# Altium schematic symbol library nira_avr_dev_board.SCHLIB: 67 symbols
Pins are listed as number, name and electrical type; pins without a type are passive.

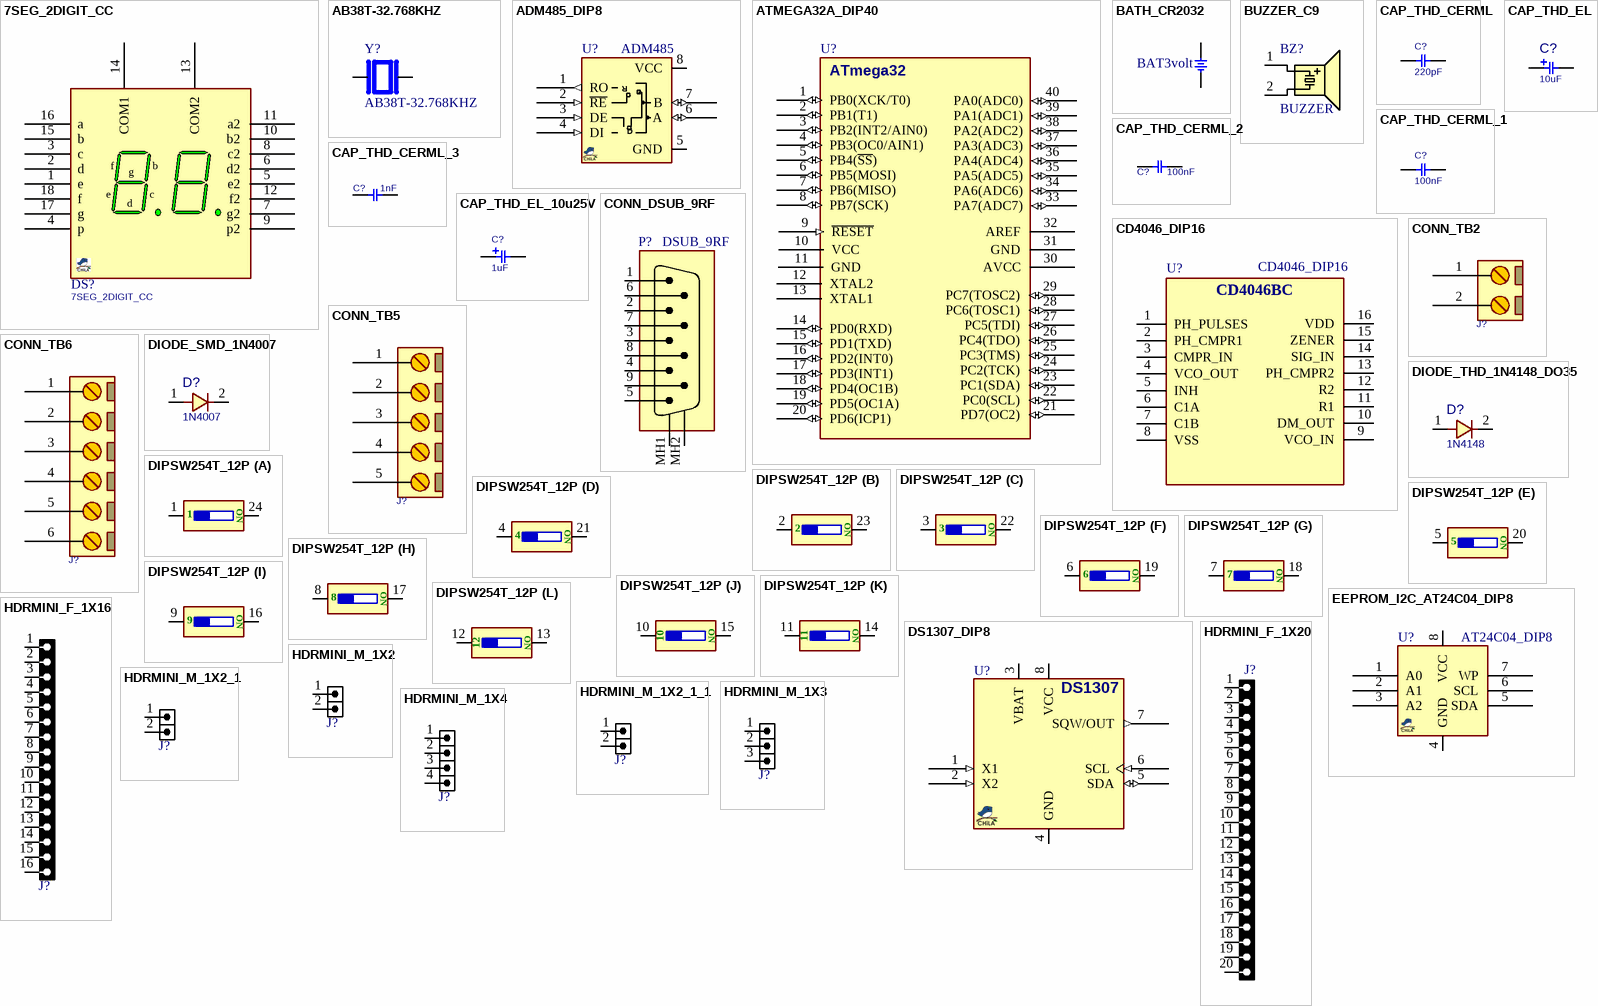
[diagram p0: symbols 7SEG_2DIGIT_CC to HDRMINI_M_1X4]

## 7SEG_2DIGIT_CC
designator DS?
7SEGMENT, 2DIGIT, common cathode; VALUE: 7SEG_2DIGIT_CC
footprint 7SEGX2_16 (7SEG 2DIGIT 16pin Pitch: 2.54mm    5621 0.56", 19X25mm)
pins: 1 e, 2 d, 3 c, 4 p, 5 e2, 6 d2, 7 g2, 8 c2, 9 p2, 10 b2, 11 a2, 12 f2, 13 COM2, 14 COM1, 15 b, 16 a, 17 g, 18 f

## AB38T-32.768KHZ
designator Y?
MP: AB38T-32.768KHZ; Price: None; Package: None; Availability: Unavailable; Value: *
footprint XTAL_AB38T-32.768KHZ
pins: 1, 2

## ADM485_DIP8
designator U?, comment ADM485
RS-485 Transceiver, 5V, DIP-8, ±7V Ground Difference Between Devices on the Bus; MANF_P#: ADM485AN; MANF: Analog Devices; PRICE: 4000toman@PAYA; VALUE: ADM485
footprint DIP_8 (DIP, pitch 2.54mm, 300mil Width)
pins: 1 RO (out), 2 ~{RE} (in), 3 DE (in), 4 DI (in), 5 GND, 6 A (io), 7 B (io), 8 VCC
text: R; D

## ATMEGA32A_DIP40
designator U?, comment ATMEGA32  (value not drawn)
MCU, AVR, 8-Bit, 32KB, 2KB RAM, 16MHz; MANF_P#: ATMEGA32A-PU; DESC: 1KB EEPROM; MANF: ATMEL/MICROCHIP; PARAM2: 2.7~5.5V; PARAM: 32KB, 2KB RAM, 16MHz, -40~85°C; PRICE: 3.5$; VALUE: ATMEGA32
footprint DIP_40DW (DIP, pitch 2.54mm, 600mil Width)
pins: 1 PB0(XCK/T0) (io), 2 PB1(T1) (io), 3 PB2(INT2/AIN0) (io), 4 PB3(OC0/AIN1) (io), 5 PB4(~{SS}) (io), 6 PB5(MOSI) (io), 7 PB6(MISO) (io), 8 PB7(SCK) (io), 9 ~{RESET} (in), 10 VCC (power), 11 GND (power), 12 XTAL2, 13 XTAL1, 14 PD0(RXD) (io), 15 PD1(TXD) (io), 16 PD2(INT0) (io), 17 PD3(INT1) (io), 18 PD4(OC1B) (io), 19 PD5(OC1A) (io), 20 PD6(ICP1) (io), 21 PD7(OC2) (io), 22 PC0(SCL) (io), 23 PC1(SDA) (io), 24 PC2(TCK) (io), 25 PC3(TMS) (io), 26 PC4(TDO) (io), 27 PC5(TDI) (io), 28 PC6(TOSC1) (io), 29 PC7(TOSC2) (io), 30 AVCC (power), 31 GND (power), 32 AREF (power), 33 PA7(ADC7) (io), 34 PA6(ADC6) (io), 35 PA5(ADC5) (io), 36 PA4(ADC4) (io), 37 PA3(ADC3) (io), 38 PA2(ADC2) (io), 39 PA1(ADC1) (io), 40 PA0(ADC0) (io)
text: ATmega32

## BATH_CR2032
designator BT?, comment BAT3volt
BATTERY HOLDER, CR2032; MANF_P#: -; .: http://www.chila.ir; VALUE: BAT3volt
footprint BTH2032 (CR2032 BATTERY HOLDER)
pins: 1, 2

## BUZZER_C9
designator BZ?, comment BUZZER
Buzzer, 9mm, Magnetic Transducer; MANF: Mallory; MANF_P#: PB-09N23P-03Q; PARAM2: 3V, 30mA; PARAM: 2.7KHz; PRICE: $3; VALUE: BUZZER
footprint BZ_C9 (BUZZER 9mm DIA, 7.62mm pitch)
pins: 1 A, 2 B

## CAP_THD_CERML
designator C?, comment 220pF
CAP, THD, CER MULTI LAYER,; PARAM: 50V; DESC: CAP, CER MULTI LAYER,; MANF_P#: MANF_PART#; PRICE: 100= 1$; MANF: MANF; PARAM2: PARAM2; ASSEMBLY: ASSEMBLY; VALUE: 220pF
footprint C_CER_D3 (CAP, CER MULTILAYER, D:3.5mm, pitch: 2.54mm)
footprint C_CER_D5 (CAP, CER, D:5mm, pitch: 2.5mm)
footprint C_CER_D6A (CAP, CER MULTILAYER, 5.8X1.7mm, pitch: 2.5mm)
footprint C_CER_D6B (CAP, CER MULTILAYER, 6X2mm, pitch: 5mm)
footprint C_CER_D7A (CAP, CER MULTILAYER, 7.0X1.7mm, pitch: 5.0mm)
footprint C_CER_D7B (CAP, CER MULTILAYER, 7.0X2.6mm, pitch: 5.0mm)
footprint C_CER_D10 (CAP, CER MULTILAYER, 12X4mm, pitch: 7.5mm)
footprint C_CER_D12 (CAP, CER MULTILAYER, 12X4mm, pitch: 7.5mm)
footprint C_CER_M4 (CAP, CER MULTILAYER, 4.2X2.0mm, pitch: 5.0mm, TDK FK24)
footprint C_CER_M5 (CAP, CER MULTILAYER, 5.0X2.5mm, pitch: 2.5mm, RAD0.1)
pins: 1, 2

## CAP_THD_CERML_1
designator C?, comment 100nF
CAP, THD, CER MULTI LAYER,; PARAM: 50V; DESC: CAP, CER MULTI LAYER,; MANF_P#: MANF_PART#; PRICE: 100= 1$; MANF: MANF; PARAM2: PARAM2; ASSEMBLY: ASSEMBLY; VALUE: 100nF
footprint C_CER_D3 (CAP, CER MULTILAYER, D:3.5mm, pitch: 2.54mm)
footprint C_CER_D5 (CAP, CER, D:5mm, pitch: 2.5mm)
footprint C_CER_D6A (CAP, CER MULTILAYER, 5.8X1.7mm, pitch: 2.5mm)
footprint C_CER_D6B (CAP, CER MULTILAYER, 6X2mm, pitch: 5mm)
footprint C_CER_D7A (CAP, CER MULTILAYER, 7.0X1.7mm, pitch: 5.0mm)
footprint C_CER_D7B (CAP, CER MULTILAYER, 7.0X2.6mm, pitch: 5.0mm)
footprint C_CER_D10 (CAP, CER MULTILAYER, 12X4mm, pitch: 7.5mm)
footprint C_CER_D12 (CAP, CER MULTILAYER, 12X4mm, pitch: 7.5mm)
footprint C_CER_M4 (CAP, CER MULTILAYER, 4.2X2.0mm, pitch: 5.0mm, TDK FK24)
footprint C_CER_M5 (CAP, CER MULTILAYER, 5.0X2.5mm, pitch: 2.5mm, RAD0.1)
pins: 1, 2

## CAP_THD_CERML_2
designator C?, comment 100nF
CAP, THD, CER MULTI LAYER,; PARAM: 50V; DESC: CAP, CER MULTI LAYER,; MANF_P#: MANF_PART#; PRICE: 100= 1$; MANF: MANF; PARAM2: PARAM2; ASSEMBLY: ASSEMBLY; VALUE: 100nF
footprint C_CER_D3 (CAP, CER MULTILAYER, D:3.5mm, pitch: 2.54mm)
footprint C_CER_D5 (CAP, CER, D:5mm, pitch: 2.5mm)
footprint C_CER_D6A (CAP, CER MULTILAYER, 5.8X1.7mm, pitch: 2.5mm)
footprint C_CER_D6B (CAP, CER MULTILAYER, 6X2mm, pitch: 5mm)
footprint C_CER_D7A (CAP, CER MULTILAYER, 7.0X1.7mm, pitch: 5.0mm)
footprint C_CER_D7B (CAP, CER MULTILAYER, 7.0X2.6mm, pitch: 5.0mm)
footprint C_CER_D10 (CAP, CER MULTILAYER, 12X4mm, pitch: 7.5mm)
footprint C_CER_D12 (CAP, CER MULTILAYER, 12X4mm, pitch: 7.5mm)
footprint C_CER_M4 (CAP, CER MULTILAYER, 4.2X2.0mm, pitch: 5.0mm, TDK FK24)
footprint C_CER_M5 (CAP, CER MULTILAYER, 5.0X2.5mm, pitch: 2.5mm, RAD0.1)
pins: 1, 2

## CAP_THD_CERML_3
designator C?, comment 1nF
CAP, THD, CER MULTI LAYER,; PARAM: 50V; DESC: CAP, CER MULTI LAYER,; MANF_P#: MANF_PART#; PRICE: 100= 1$; MANF: MANF; PARAM2: PARAM2; ASSEMBLY: ASSEMBLY; VALUE: 1nF
footprint C_CER_D3 (CAP, CER MULTILAYER, D:3.5mm, pitch: 2.54mm)
footprint C_CER_D5 (CAP, CER, D:5mm, pitch: 2.5mm)
footprint C_CER_D6A (CAP, CER MULTILAYER, 5.8X1.7mm, pitch: 2.5mm)
footprint C_CER_D6B (CAP, CER MULTILAYER, 6X2mm, pitch: 5mm)
footprint C_CER_D7A (CAP, CER MULTILAYER, 7.0X1.7mm, pitch: 5.0mm)
footprint C_CER_D7B (CAP, CER MULTILAYER, 7.0X2.6mm, pitch: 5.0mm)
footprint C_CER_D10 (CAP, CER MULTILAYER, 12X4mm, pitch: 7.5mm)
footprint C_CER_D12 (CAP, CER MULTILAYER, 12X4mm, pitch: 7.5mm)
footprint C_CER_M4 (CAP, CER MULTILAYER, 4.2X2.0mm, pitch: 5.0mm, TDK FK24)
footprint C_CER_M5 (CAP, CER MULTILAYER, 5.0X2.5mm, pitch: 2.5mm, RAD0.1)
pins: 1, 2

## CAP_THD_EL
designator C?, comment 10uF
CAP, THD, ELEC,; MANF_P#: MANF_PART#; PARAM2: 25V; DESC: DESCRIPTION; DIST#: MOUSER; PARAM: 20%; PRICE: 10= 5$; MANF: MANF; ASSEMBLY: ASSEMBLY; VALUE: 10uF
footprint C_EL_8X12 (Cap Elec, D8.0X12.0H pitch: 3.5mm, RB.14/.26, RB.15/.32)
footprint C_EL_4X7 (Cap Elec, D4.0X7.0H pitch: 1.5mm)
footprint C_EL_5X7 (Cap Elec, D5.0X7.0H pitch: 2mm)
footprint C_EL_5X11 (Cap Elec, D5.0X11.0H pitch: 2mm)
footprint C_EL_6X11 (Cap Elec, D6.3X11.0H pitch: 2.5mm)
footprint C_EL_8X12 (Cap Elec, D8.0X12.0H pitch: 3.5mm, RB.14/.26, RB.15/.32)
footprint C_EL_8X12R (Cap Elec, D8.0X12.0H pitch: 3.5mm, RIGHT ANGLE)
footprint C_EL_10X20 (Cap Elec, D10.0X20.0H pitch: 5.0mm, RB.2/.4)
footprint C_EL_12X25 (Cap Elec, D12.0X25.0H pitch: 5.0mm, RB.2/.5)
footprint C_EL_16X25 (Cap Elec, D16.0X25.0H pitch: 7.6mm, RB.3/.6)
footprint C_EL_18X35 (Cap Elec, D18.0X35.0H pitch: 7.6mm, RB.3/.7)
footprint C_EL_20X35 (Cap Elec, D20.0X35.0H pitch: 10.0mm, RB.4/.8)
footprint C_EL_25X40 (Cap Elec, D25.0X40.0H pitch: 12.8mm, RB.5/1)
footprint C_EL_30X50 (Cap Elec, D30.0X50.0H pitch: 10.0mm)
footprint C_EL_35X30 (Cap Elec, D35.0X30.0H pitch: 10.0mm, 470uF/400V, RB.44/1.3)
footprint C_EL_10X12 (Footprint not found)
footprint C_EL_6X12_R (Footprint not found)
pins: 1, 2

## CAP_THD_EL_10u25V
designator C?, comment 1uF
CAP, THD, ELEC, 10uF, 25V; MANF_P#: MANF_PART#; PARAM: 25V; MANF: MANF; PARAM2: PARAM2; VALUE: 1uF
footprint C_EL_4X7 (Cap Elec dia:4mm height: 7mm pitch: 1.5mm)
pins: 1, 2

## CD4046_DIP16
designator U?
CREATED BY J / Micropower Phase-Locked Loop; MANF: FAIRCHILD; VALUE: CD4046_DIP16; PARAM: *; PARAM1: *; MANF_P#: *
footprint DIP_16 (DIP, pitch 2.54mm, 300mil Width)
pins: 1 PH_PULSES, 2 PH_CMPR1, 3 CMPR_IN, 4 VCO_OUT, 5 INH, 6 C1A, 7 C1B, 8 VSS, 9 VCO_IN, 10 DM_OUT, 11 R1, 12 R2, 13 PH_CMPR2, 14 SIG_IN, 15 ZENER, 16 VDD
text: CD4046BC

## CONN_DSUB_9RF
designator P?, comment DSUB_9RF
CONN, DSUB, HD, 9PIN, R/A, FEMALE, THD; MANF_P#: -; MANF: -; VALUE: DSUB_9RF
footprint DSUB_9RF (CONN, DSUB MINIATURE, 9PIN, R/A, FEMALE)
pins: 1, 2, 3, 4, 5, 6, 7, 8, 9, MH1, MH2

## CONN_TB2
designator J?  (value not drawn)
CONN, TERMINAL BLOCK, 5.08mm pitch; VALUE: CONN_TB2
footprint TBG_2 (Terminal Block Green)
footprint TBB_2 (Terminal Block Blue)
pins: 1, 2

## CONN_TB5
designator J?  (value not drawn)
CONN, TERMINAL BLOCK, 5.08mm pitch; VALUE: CONN_TB5
footprint TBG_5 (Terminal Block Green)
footprint TBB_5 (Terminal Block Blue)
pins: 1, 2, 3, 4, 5

## CONN_TB6
designator J?  (value not drawn)
CONN, TERMINAL BLOCK, 5.08mm pitch; VALUE: CONN_TB6
footprint TBG_6 (Terminal Block Green)
footprint TBB_6 (Terminal Block Blue)
pins: 1, 2, 3, 4, 5, 6

## DIODE_SMD_1N4007
designator D?, comment 1N4007
DIODE, GENERAL PURPOSE, 1000V/1A; MANF: Kingtronics; DESC: DESCRIPTION; PARAM: 1000V VRRM; PARAM2: 1A; MANF_P#: M7; ASSEMBLY: ASSEMBLY; PRICE: PRICE; VALUE: 1N4007
footprint D_AX04_DO41 (DIODE 0.4 INCH SPACING DO-41)
pins: 1, 2

## DIODE_THD_1N4148_DO35
designator D?, comment 1N4148
DIODE, FAST SWTICHING, THD; DESC: DESCRIPTION; PARAM: 75V; PARAM2: 0.3A; MANF: MANF; ASSEMBLY: ASSEMBLY; PRICE: PRICE; MANF_P#: 1N4148; VALUE: 1N4148
footprint D_AX02_DO35 (DIODE 0.2 INCH SPACING DO-35)
pins: 1, 2

## DIPSW254T_12P
designator S?, comment DIPSW12  (value not drawn)
SWITCH, DIP, 12P, THD; MANF: MANF; MANF_P#: MANF_P#; VALUE: DIPSW12
footprint DIPSW254T_12 (SWITCH DIP 12POS, THD, 2.54mm,)
part A pins: 1 A1, 24 B1
part B pins: 2 A2, 23 B2
part C pins: 3 A3, 22 B3
part D pins: 4 A4, 21 B4
part E pins: 5 A5, 20 B5
part F pins: 6 A6, 19 B6
part G pins: 7 A7, 18 B7
part H pins: 8 A8, 17 B8
part I pins: 9 A9, 16 B9
part J pins: 10 A10, 15 B10
part K pins: 11 A11, 14 B11
part L pins: 12 A12, 13 B12
part A text: ON
part B text: ON
part C text: ON
part D text: ON
part E text: ON
part F text: ON
part G text: ON
part H text: ON
part I text: ON
part J text: ON
part K text: ON
part L text: ON

## DS1307_DIP8
designator U?, comment DS1307  (value not drawn)
Real-Time Clock, 64 X8, I2C, 56B, Batt; MANF: Maxim Integrated; MANF_P#: DS1307N+; PARAM2: 4.5~5.5V; PARAM: 64 X8, I2C, 56B, Batt, -40~85oC; VALUE: DS1307; PRICE: 3.7$
footprint DIP_8 (DIP, pitch 2.54mm, 300mil Width)
pins: 1 X1 (in), 2 X2 (in), 3 VBAT (power), 4 GND (power), 5 SDA (io), 6 SCL (in), 7 SQW/OUT (out), 8 VCC (power)

## EEPROM_I2C_AT24C04_DIP8
designator U?, comment AT24C04_DIP8
VALUE: AT24C04_DIP8; PARAM: *; PARAM1: *; MANF: *; MANF_P#: *
footprint DIP_8 (DIP, pitch 2.54mm, 300mil Width)
pins: 1 A0, 2 A1, 3 A2, 4 GND, 5 SDA, 6 SCL, 7 WP, 8 VCC

## HDRMINI_F_1X16
designator J?, comment HDR1X10  (value not drawn)
CONN, HEADER, Female, pitch: 1.27mm; VALUE: HDRMINI_10
footprint HDRMINI_F_1X16 (mini header (50mil pitch))
pins: 1, 2, 3, 4, 5, 6, 7, 8, 9, 10, 11, 12, 13, 14, 15, 16

## HDRMINI_F_1X20
designator J?, comment HDR1X10  (value not drawn)
CONN, HEADER, Female, pitch: 1.27mm; VALUE: HDRMINI_10
footprint HDRMINI_F_1X20 (mini header (50mil pitch))
pins: 1, 2, 3, 4, 5, 6, 7, 8, 9, 10, 11, 12, 13, 14, 15, 16, 17, 18, 19, 20

## HDRMINI_M_1X2
designator J?, comment HDRMINI_2  (value not drawn)
CONN, HEADER, Male, pitch: 1.27mm, 2POS; VALUE: HDRMINI_2
footprint HDRMINI_M_1X2 (mini header (50mil pitch))
pins: 1, 2

## HDRMINI_M_1X2_1
designator J?, comment HDRMINI_2  (value not drawn)
CONN, HEADER, Male, pitch: 1.27mm, 2POS; VALUE: HDRMINI_2
footprint HDRMINI_M_1X2 (mini header (50mil pitch))
pins: 1, 2

## HDRMINI_M_1X2_1_1
designator J?, comment HDRMINI_2  (value not drawn)
CONN, HEADER, Male, pitch: 1.27mm, 2POS; VALUE: HDRMINI_2
footprint HDRMINI_M_1X2 (mini header (50mil pitch))
pins: 1, 2

## HDRMINI_M_1X3
designator J?, comment HDRMINI_3  (value not drawn)
CONN, HEADER, Male, pitch: 1.27mm, 3POS; VALUE: HDRMINI_3
footprint HDRMINI_M_1X3 (mini header (50mil pitch))
pins: 1, 2, 3

## HDRMINI_M_1X4
designator J?, comment HDR1X4  (value not drawn)
CONN, HEADER, Male, pitch: 1.27mm, 4POS; VALUE: HDRMINI_4
footprint HDRMINI_M_1X4 (mini header (50mil pitch))
pins: 1, 2, 3, 4

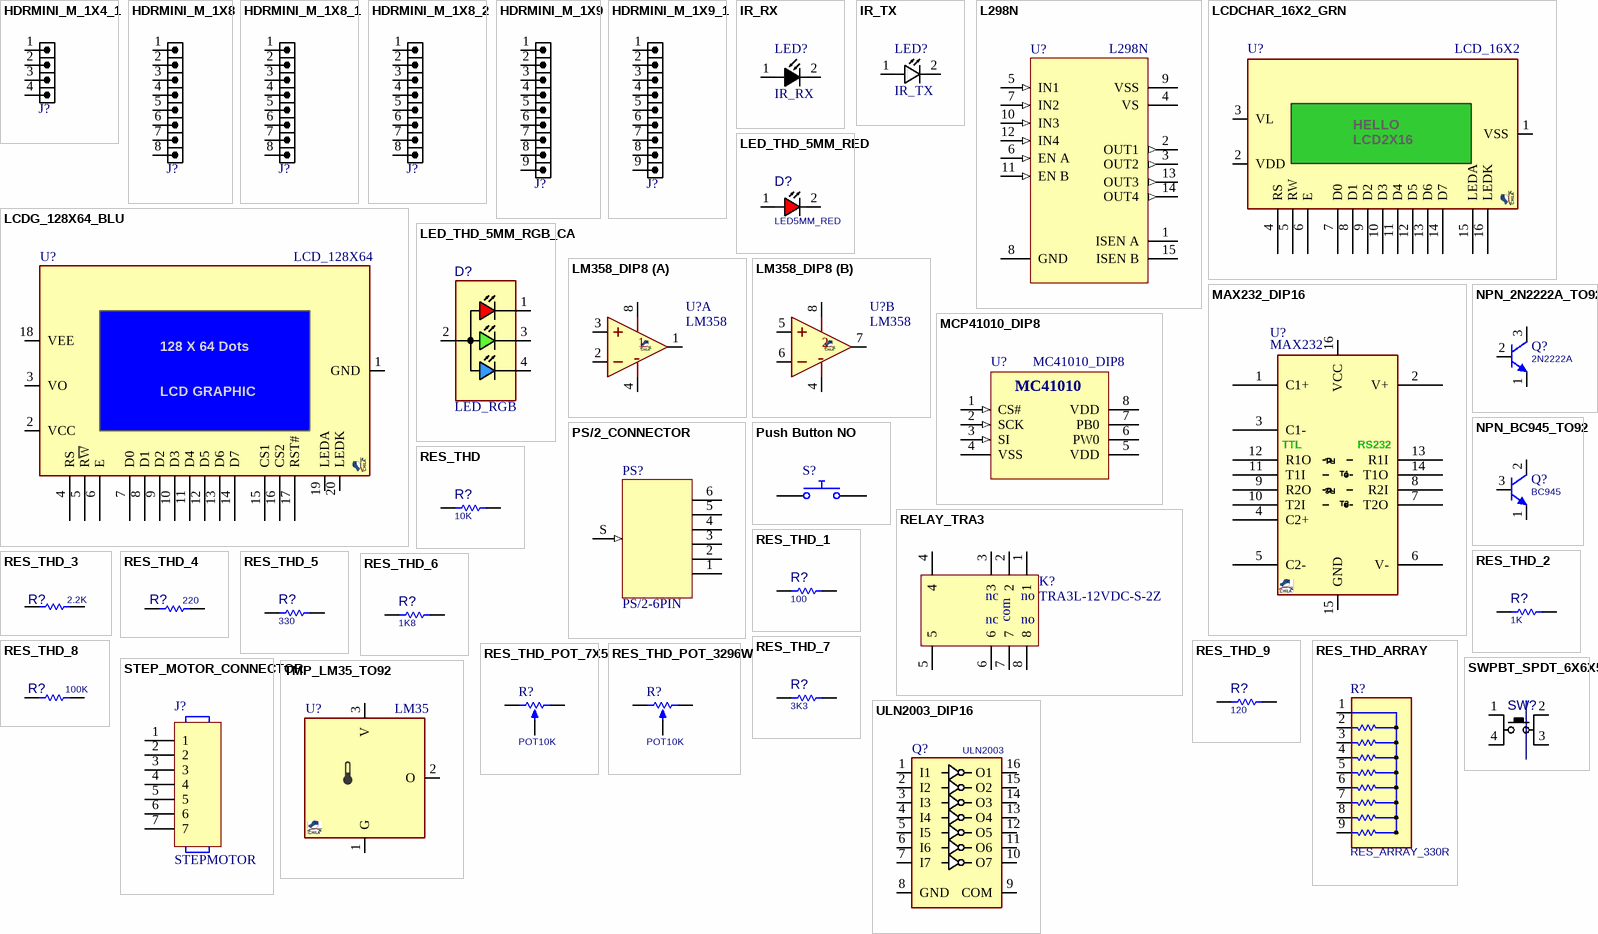
[diagram p1: symbols HDRMINI_M_1X4_1 to ULN2003_DIP16]

## HDRMINI_M_1X4_1
designator J?, comment HDR1X4  (value not drawn)
CONN, HEADER, Male, pitch: 1.27mm, 4POS; VALUE: HDRMINI_4
footprint HDRMINI_M_1X4 (mini header (50mil pitch))
pins: 1, 2, 3, 4

## HDRMINI_M_1X8
designator J?, comment HDR1X8  (value not drawn)
CONN, HEADER, Male, pitch: 1.27mm, 8POS; VALUE: HDRMINI_8
footprint HDRMINI_M_1X8 (mini header (50mil pitch))
pins: 1, 2, 3, 4, 5, 6, 7, 8

## HDRMINI_M_1X8_1
designator J?, comment HDR1X8  (value not drawn)
CONN, HEADER, Male, pitch: 1.27mm, 8POS; VALUE: HDRMINI_8
footprint HDRMINI_M_1X8 (mini header (50mil pitch))
pins: 1, 2, 3, 4, 5, 6, 7, 8

## HDRMINI_M_1X8_2
designator J?, comment HDR1X8  (value not drawn)
CONN, HEADER, Male, pitch: 1.27mm, 8POS; VALUE: HDRMINI_8
footprint HDRMINI_M_1X8 (mini header (50mil pitch))
pins: 1, 2, 3, 4, 5, 6, 7, 8

## HDRMINI_M_1X9
designator J?, comment HDR1X9  (value not drawn)
CONN, HEADER, Male, pitch: 1.27mm, 9POS; VALUE: HDRMINI_9
footprint HDRMINI_M_1X9 (mini header (50mil pitch))
pins: 1, 2, 3, 4, 5, 6, 7, 8, 9

## HDRMINI_M_1X9_1
designator J?, comment HDR1X9  (value not drawn)
CONN, HEADER, Male, pitch: 1.27mm, 9POS; VALUE: HDRMINI_9
footprint HDRMINI_M_1X9 (mini header (50mil pitch))
pins: 1, 2, 3, 4, 5, 6, 7, 8, 9

## IR_RX
designator LED?
CREATED BY J; VALUE: IR_RX; PARAM: *; PARAM1: *; MANF: *; MANF_P#: *
footprint LED5MM_RED (LED THD 5MM RED)
pins: 1 ANODE, 2 CATHODE

## IR_TX
designator LED?
CREATED BY J; VALUE: IR_TX; PARAM: *; PARAM1: *; MANF: *; MANF_P#: *
footprint LED5MM_RED (LED THD 5MM RED)
pins: 1 ANODE, 2 CATHODE

## L298N
designator U?
CREATED BY J; VALUE: L298N; PARAM: *; PARAM2: *; MANF: *; MANF_P#: *
footprint MULTIWATT_15V (L298 straight MULTIWATT15 pitch: 1.27mm 20x5mm)
pins: 1 ISEN A, 2 OUT1 (out), 3 OUT2 (out), 4 VS, 5 IN1 (in), 6 EN A (in), 7 IN2 (in), 8 GND, 9 VSS, 10 IN3 (in), 11 EN B (in), 12 IN4 (in), 13 OUT3 (out), 14 OUT4 (out), 15 ISEN B

## LCDCHAR_16X2_GRN
designator U?, comment LCD_16X2
LCD Character Disp, 16X2; MANF: elcodis, sunrom; MANF_P#: JHD162A, TS1620A-20; PARAM2: Green back, Gray, 5V; PARAM: 2 lines x 16 characters; VALUE: LCD_16X2
footprint LCDCHAR_16X2_GRN (LCD Characters Display, 2linesX16char, Green, header1x16)
pins: 1 VSS, 2 VDD, 3 VL, 4 RS, 5 RW, 6 E, 7 D0, 8 D1, 9 D2, 10 D3, 11 D4, 12 D5, 13 D6, 14 D7, 15 LEDA, 16 LEDK
text: HELLO; LCD2X16

## LCDG_128X64_BLU
designator U?, comment LCD_128X64
LCD Graphic Disp, 128X64, with KS108 Controller; MANF_P#: TS12864A-2, LCD12864A, GDM12864A; PARAM2: Blue back, white, 5V; PARAM: 128X64 Dots, 2.9"; MANF: -; VALUE: LCD_128X64
footprint LCDG_128X64_BLU (LCD Graphic Disp, 128X64, TS12864A-2)
pins: 1 GND, 2 VCC, 3 VO, 4 RS, 5 R~{W}, 6 E, 7 D0, 8 D1, 9 D2, 10 D3, 11 D4, 12 D5, 13 D6, 14 D7, 15 CS1, 16 CS2, 17 RST#, 18 VEE, 19 LEDA, 20 LEDK
text: 128 X 64 Dots; LCD GRAPHIC

## LED_THD_5MM_RED
designator D?, comment LED5MM_RED
LED, THD, 5MM, RED; DESC: DESCRIPTION; MANF_P#: MANF_PART#; PARAM2: 2.2V; MANF: MANF; ASSEMBLY: ASSEMBLY; PRICE: PRICE; VALUE: LED5MM_RED
footprint LED5MM_RED (LED 5MM THROUGH HOLE RED)
pins: 1 ANODE, 2 CATHODE

## LED_THD_5MM_RGB_CA
designator D?, comment LED_RGB
LED, THD, 5MM, RGB COMMON CATHODE; MANF_P#: YSL-R596CR3G4B5C-C10; MANF: CHINA YOUNG; DESC: DESCRIPTION; ASSEMBLY: ASSEMBLY; PRICE: PRICE; VALUE: LED_RGB
footprint LED5RGB (LED THD 5MM RGB)
pins: 1 RED, 2 C, 3 GRN, 4 BLU

## LM358_DIP8
designator U?, comment LM358
AMP, Dual, Low-Power; MANF: Texas Instruments, Fairchild; MANF_P#: LM358AN; PARAM2: 3 V ~ 32 V, ±1.5 V ~ 16 V; PRICE: -; VALUE: LM358
footprint DIP_8 (DIP, pitch 2.54mm, 300mil Width)
pins on every part: 4 V-, 8 V+
part A pins: 1 OUT, 2 IN-, 3 IN+
part B pins: 5 IN+, 6 IN-, 7 OUT

## MAX232_DIP16
designator U?, comment MAX232
RS-232, DUAL, +5V, Driver/Receiver; MANF_PART#: MAX232N, MAX232ACPE; MANF: Texas Instruments, Maxim Integrated; PARAM: PARAM; PRICE: 1500toman@PAYA; VALUE: MAX232
footprint DIP_16 (DIP, pitch 2.54mm, 300mil Width)
pins: 1 C1+, 2 V+, 3 C1-, 4 C2+, 5 C2-, 6 V-, 7 T2O, 8 R2I, 9 R2O, 10 T2I, 11 T1I, 12 R1O, 13 R1I, 14 T1O, 15 GND (power), 16 VCC (power)
text: TTL; RS232; R1; R2; T1; T2

## MCP41010_DIP8
designator U?, comment MC41010_DIP8
CREATED BY J / Single/Dual Digital Potentiometer with SPI™ Interface; MANF: MICROCHIP; VALUE: MC41010_DIP8; PARAM: *; PARAM1: *; MANF_P#: *
footprint DIP_8 (DIP, pitch 2.54mm, 300mil Width)
pins: 1 CS# (in), 2 SCK (in), 3 SI (in), 4 VSS, 5 VDD, 6 PW0, 7 PB0, 8 VDD
text: MC41010

## NPN_2N2222A_TO92
designator Q?, comment 2N2222A
BJT, NPN, 40v, 0.6A, THD, TO92; PARAM: 0.6A, hFE100~300; PARAM2: 40v, 625mW; MANF: DIOTEC; MANF_P#: 2N2222A; VALUE: 2N2222A
footprint TO92_3 (TO-92)
simulation model NS3904
pins: 1 E, 2 B, 3 C

## NPN_BC945_TO92
designator Q?, comment BC945
BJT, NPN, 50v, 0.15A, THD, TO92, BC945; PARAM2: 250mW; MANF_P#: 2SC945, BC945; PARAM: 50v, 0.15A; MANF: -; VALUE: BC945
footprint TO92_3 (TO-92)
simulation model NS3904
pins: 1 E, 2 C, 3 B

## PS/2_CONNECTOR
designator PS?, comment PS/2-6PIN
CREATED BY J; VALUE: PS/2-6PIN; MANF: *; MANF_P#: *; PARAM: *; PARAM1: *
pins: 1, 2, 3, 4, 5, 6, S 7 (in)

## Push Button NO
designator S?, comment Push Button Normally Opened  (value not drawn)
closed: 0; Rclosed: 1m; Ropen: 1Meg; SimulationGenericComponent: True
simulation model PUSH_BUTTON_NO (Switches & Buttons)
pins: 1, 2

## RELAY_TRA3
designator K?, comment TRA3L-12VDC-S-2Z
MANF: TIANBO; VALUE: TRA3L-12VDC-S-2Z; MANF_P#: *; PARAM1: *; PARAM2: *
footprint TR3_RELAY_TIANBO
pins: 1, 2, 3, 4, 5, 6, 7, 8
text: nc; no; com

## RES_THD
designator R?, comment 10K
RESISTOR, THD; MANF_P#: RK73H1ETTP4701F; MANF: KOA SPEER; PARAM: 0.063W; DESC: DESCRIPTION; DIST#: MOUSER; PARAM2: 1%; ASSEMBLY: ASSEMBLY; PRICE: 100= 0.5$; VALUE: 10K
footprint R0125W_AX025 (RESISTOR 1/8 WATT, AXIAL0.25)
footprint R1W_AX06 (RESISTOR 1 WATT, AXIAL0.6)
footprint R2W_AX08 (RESISTOR 2 WATT, AXIAL0.8)
footprint R2W_AX_VER (RESISTOR 2 WATT, AXIAL0.8)
footprint R3W_AX09 (RESISTOR 3 WATT, AXIAL0.9)
footprint R4W_AX10 (RESISTOR 4 WATT, AXIAL1.0)
footprint R05W_AX05 (RESISTOR 0.5 WATT, AXIAL0.5)
footprint R5W_AX11 (RESISTOR 5 WATT, AXIAL1.1)
footprint R5W_VER (RESISTOR 5 WATT, AXIAL1.1)
footprint R025W_AX04 (RESISTOR 1/4 WATT, AXIAL0.4)
footprint R025W_AX_VER (RESISTOR 1/4 WATT, AXIAL0.4)
footprint R0125W_AX03 (RESISTOR 1/8 WATT, AXIAL0.3 INCH SPACING)
footprint R0125W_AX_VER (RESISTOR 1/8 WATT, AXIAL0.25)
footprint RWW2W_VER (RESISTOR 2 WATT, Wirewound)
footprint RWW10W_VER (RESISTOR 10 WATT, Wirewound)
footprint R10W_AX11 (RESISTOR 10 WATT, AXIAL1.1)
footprint R10W_AX14 (RESISTOR 10 WATT, AXIAL1.4)
footprint R10W_AX20 (RESISTOR 10 WATT, AXIAL2.0)
footprint RWW5W (Footprint not found)
footprint RWW5W_VER (Footprint not found)
pins: 1, 2

## RES_THD_1
designator R?, comment 100
RESISTOR, THD; MANF_P#: RK73H1ETTP4701F; MANF: KOA SPEER; PARAM: 0.063W; DESC: DESCRIPTION; DIST#: MOUSER; PARAM2: 1%; ASSEMBLY: ASSEMBLY; PRICE: 100= 0.5$; VALUE: 100
footprint R0125W_AX025 (RESISTOR 1/8 WATT, AXIAL0.25)
footprint R1W_AX06 (RESISTOR 1 WATT, AXIAL0.6)
footprint R2W_AX08 (RESISTOR 2 WATT, AXIAL0.8)
footprint R2W_AX_VER (RESISTOR 2 WATT, AXIAL0.8)
footprint R3W_AX09 (RESISTOR 3 WATT, AXIAL0.9)
footprint R4W_AX10 (RESISTOR 4 WATT, AXIAL1.0)
footprint R05W_AX05 (RESISTOR 0.5 WATT, AXIAL0.5)
footprint R5W_AX11 (RESISTOR 5 WATT, AXIAL1.1)
footprint R5W_VER (RESISTOR 5 WATT, AXIAL1.1)
footprint R025W_AX04 (RESISTOR 1/4 WATT, AXIAL0.4)
footprint R025W_AX_VER (RESISTOR 1/4 WATT, AXIAL0.4)
footprint R0125W_AX03 (RESISTOR 1/8 WATT, AXIAL0.3 INCH SPACING)
footprint R0125W_AX_VER (RESISTOR 1/8 WATT, AXIAL0.25)
footprint RWW2W_VER (RESISTOR 2 WATT, Wirewound)
footprint RWW10W_VER (RESISTOR 10 WATT, Wirewound)
footprint R10W_AX11 (RESISTOR 10 WATT, AXIAL1.1)
footprint R10W_AX14 (RESISTOR 10 WATT, AXIAL1.4)
footprint R10W_AX20 (RESISTOR 10 WATT, AXIAL2.0)
footprint RWW5W (Footprint not found)
footprint RWW5W_VER (Footprint not found)
pins: 1, 2

## RES_THD_2
designator R?, comment 1K
RESISTOR, THD; MANF_P#: RK73H1ETTP4701F; MANF: KOA SPEER; PARAM: 0.063W; DESC: DESCRIPTION; DIST#: MOUSER; PARAM2: 1%; ASSEMBLY: ASSEMBLY; PRICE: 100= 0.5$; VALUE: 1K
footprint R0125W_AX025 (RESISTOR 1/8 WATT, AXIAL0.25)
footprint R1W_AX06 (RESISTOR 1 WATT, AXIAL0.6)
footprint R2W_AX08 (RESISTOR 2 WATT, AXIAL0.8)
footprint R2W_AX_VER (RESISTOR 2 WATT, AXIAL0.8)
footprint R3W_AX09 (RESISTOR 3 WATT, AXIAL0.9)
footprint R4W_AX10 (RESISTOR 4 WATT, AXIAL1.0)
footprint R05W_AX05 (RESISTOR 0.5 WATT, AXIAL0.5)
footprint R5W_AX11 (RESISTOR 5 WATT, AXIAL1.1)
footprint R5W_VER (RESISTOR 5 WATT, AXIAL1.1)
footprint R025W_AX04 (RESISTOR 1/4 WATT, AXIAL0.4)
footprint R025W_AX_VER (RESISTOR 1/4 WATT, AXIAL0.4)
footprint R0125W_AX03 (RESISTOR 1/8 WATT, AXIAL0.3 INCH SPACING)
footprint R0125W_AX_VER (RESISTOR 1/8 WATT, AXIAL0.25)
footprint RWW2W_VER (RESISTOR 2 WATT, Wirewound)
footprint RWW10W_VER (RESISTOR 10 WATT, Wirewound)
footprint R10W_AX11 (RESISTOR 10 WATT, AXIAL1.1)
footprint R10W_AX14 (RESISTOR 10 WATT, AXIAL1.4)
footprint R10W_AX20 (RESISTOR 10 WATT, AXIAL2.0)
footprint RWW5W (Footprint not found)
footprint RWW5W_VER (Footprint not found)
pins: 1, 2

## RES_THD_3
designator R?, comment 2.2K
RESISTOR, THD; MANF_P#: RK73H1ETTP4701F; MANF: KOA SPEER; PARAM: 0.063W; DESC: DESCRIPTION; DIST#: MOUSER; PARAM2: 1%; ASSEMBLY: ASSEMBLY; PRICE: 100= 0.5$; VALUE: 2.2K
footprint R0125W_AX025 (RESISTOR 1/8 WATT, AXIAL0.25)
footprint R1W_AX06 (RESISTOR 1 WATT, AXIAL0.6)
footprint R2W_AX08 (RESISTOR 2 WATT, AXIAL0.8)
footprint R2W_AX_VER (RESISTOR 2 WATT, AXIAL0.8)
footprint R3W_AX09 (RESISTOR 3 WATT, AXIAL0.9)
footprint R4W_AX10 (RESISTOR 4 WATT, AXIAL1.0)
footprint R05W_AX05 (RESISTOR 0.5 WATT, AXIAL0.5)
footprint R5W_AX11 (RESISTOR 5 WATT, AXIAL1.1)
footprint R5W_VER (RESISTOR 5 WATT, AXIAL1.1)
footprint R025W_AX04 (RESISTOR 1/4 WATT, AXIAL0.4)
footprint R025W_AX_VER (RESISTOR 1/4 WATT, AXIAL0.4)
footprint R0125W_AX03 (RESISTOR 1/8 WATT, AXIAL0.3 INCH SPACING)
footprint R0125W_AX_VER (RESISTOR 1/8 WATT, AXIAL0.25)
footprint RWW2W_VER (RESISTOR 2 WATT, Wirewound)
footprint RWW10W_VER (RESISTOR 10 WATT, Wirewound)
footprint R10W_AX11 (RESISTOR 10 WATT, AXIAL1.1)
footprint R10W_AX14 (RESISTOR 10 WATT, AXIAL1.4)
footprint R10W_AX20 (RESISTOR 10 WATT, AXIAL2.0)
footprint RWW5W (Footprint not found)
footprint RWW5W_VER (Footprint not found)
pins: 1, 2

## RES_THD_4
designator R?, comment 220
RESISTOR, THD; MANF_P#: RK73H1ETTP4701F; MANF: KOA SPEER; PARAM: 0.063W; DESC: DESCRIPTION; DIST#: MOUSER; PARAM2: 1%; ASSEMBLY: ASSEMBLY; PRICE: 100= 0.5$; VALUE: 220
footprint R0125W_AX025 (RESISTOR 1/8 WATT, AXIAL0.25)
footprint R1W_AX06 (RESISTOR 1 WATT, AXIAL0.6)
footprint R2W_AX08 (RESISTOR 2 WATT, AXIAL0.8)
footprint R2W_AX_VER (RESISTOR 2 WATT, AXIAL0.8)
footprint R3W_AX09 (RESISTOR 3 WATT, AXIAL0.9)
footprint R4W_AX10 (RESISTOR 4 WATT, AXIAL1.0)
footprint R05W_AX05 (RESISTOR 0.5 WATT, AXIAL0.5)
footprint R5W_AX11 (RESISTOR 5 WATT, AXIAL1.1)
footprint R5W_VER (RESISTOR 5 WATT, AXIAL1.1)
footprint R025W_AX04 (RESISTOR 1/4 WATT, AXIAL0.4)
footprint R025W_AX_VER (RESISTOR 1/4 WATT, AXIAL0.4)
footprint R0125W_AX03 (RESISTOR 1/8 WATT, AXIAL0.3 INCH SPACING)
footprint R0125W_AX_VER (RESISTOR 1/8 WATT, AXIAL0.25)
footprint RWW2W_VER (RESISTOR 2 WATT, Wirewound)
footprint RWW10W_VER (RESISTOR 10 WATT, Wirewound)
footprint R10W_AX11 (RESISTOR 10 WATT, AXIAL1.1)
footprint R10W_AX14 (RESISTOR 10 WATT, AXIAL1.4)
footprint R10W_AX20 (RESISTOR 10 WATT, AXIAL2.0)
footprint RWW5W (Footprint not found)
footprint RWW5W_VER (Footprint not found)
pins: 1, 2

## RES_THD_5
designator R?, comment 330
RESISTOR, THD; MANF_P#: RK73H1ETTP4701F; MANF: KOA SPEER; PARAM: 0.063W; DESC: DESCRIPTION; DIST#: MOUSER; PARAM2: 1%; ASSEMBLY: ASSEMBLY; PRICE: 100= 0.5$; VALUE: 330
footprint R0125W_AX025 (RESISTOR 1/8 WATT, AXIAL0.25)
footprint R1W_AX06 (RESISTOR 1 WATT, AXIAL0.6)
footprint R2W_AX08 (RESISTOR 2 WATT, AXIAL0.8)
footprint R2W_AX_VER (RESISTOR 2 WATT, AXIAL0.8)
footprint R3W_AX09 (RESISTOR 3 WATT, AXIAL0.9)
footprint R4W_AX10 (RESISTOR 4 WATT, AXIAL1.0)
footprint R05W_AX05 (RESISTOR 0.5 WATT, AXIAL0.5)
footprint R5W_AX11 (RESISTOR 5 WATT, AXIAL1.1)
footprint R5W_VER (RESISTOR 5 WATT, AXIAL1.1)
footprint R025W_AX04 (RESISTOR 1/4 WATT, AXIAL0.4)
footprint R025W_AX_VER (RESISTOR 1/4 WATT, AXIAL0.4)
footprint R0125W_AX03 (RESISTOR 1/8 WATT, AXIAL0.3 INCH SPACING)
footprint R0125W_AX_VER (RESISTOR 1/8 WATT, AXIAL0.25)
footprint RWW2W_VER (RESISTOR 2 WATT, Wirewound)
footprint RWW10W_VER (RESISTOR 10 WATT, Wirewound)
footprint R10W_AX11 (RESISTOR 10 WATT, AXIAL1.1)
footprint R10W_AX14 (RESISTOR 10 WATT, AXIAL1.4)
footprint R10W_AX20 (RESISTOR 10 WATT, AXIAL2.0)
footprint RWW5W (Footprint not found)
footprint RWW5W_VER (Footprint not found)
pins: 1, 2

## RES_THD_6
designator R?, comment 1K8
RESISTOR, THD; MANF_P#: RK73H1ETTP4701F; MANF: KOA SPEER; PARAM: 0.063W; DESC: DESCRIPTION; DIST#: MOUSER; PARAM2: 1%; ASSEMBLY: ASSEMBLY; PRICE: 100= 0.5$; VALUE: 1K8
footprint R0125W_AX025 (RESISTOR 1/8 WATT, AXIAL0.25)
footprint R1W_AX06 (RESISTOR 1 WATT, AXIAL0.6)
footprint R2W_AX08 (RESISTOR 2 WATT, AXIAL0.8)
footprint R2W_AX_VER (RESISTOR 2 WATT, AXIAL0.8)
footprint R3W_AX09 (RESISTOR 3 WATT, AXIAL0.9)
footprint R4W_AX10 (RESISTOR 4 WATT, AXIAL1.0)
footprint R05W_AX05 (RESISTOR 0.5 WATT, AXIAL0.5)
footprint R5W_AX11 (RESISTOR 5 WATT, AXIAL1.1)
footprint R5W_VER (RESISTOR 5 WATT, AXIAL1.1)
footprint R025W_AX04 (RESISTOR 1/4 WATT, AXIAL0.4)
footprint R025W_AX_VER (RESISTOR 1/4 WATT, AXIAL0.4)
footprint R0125W_AX03 (RESISTOR 1/8 WATT, AXIAL0.3 INCH SPACING)
footprint R0125W_AX_VER (RESISTOR 1/8 WATT, AXIAL0.25)
footprint RWW2W_VER (RESISTOR 2 WATT, Wirewound)
footprint RWW10W_VER (RESISTOR 10 WATT, Wirewound)
footprint R10W_AX11 (RESISTOR 10 WATT, AXIAL1.1)
footprint R10W_AX14 (RESISTOR 10 WATT, AXIAL1.4)
footprint R10W_AX20 (RESISTOR 10 WATT, AXIAL2.0)
footprint RWW5W (Footprint not found)
footprint RWW5W_VER (Footprint not found)
pins: 1, 2

## RES_THD_7
designator R?, comment 3K3
RESISTOR, THD; MANF_P#: RK73H1ETTP4701F; MANF: KOA SPEER; PARAM: 0.063W; DESC: DESCRIPTION; DIST#: MOUSER; PARAM2: 1%; ASSEMBLY: ASSEMBLY; PRICE: 100= 0.5$; VALUE: 3K3
footprint R0125W_AX025 (RESISTOR 1/8 WATT, AXIAL0.25)
footprint R1W_AX06 (RESISTOR 1 WATT, AXIAL0.6)
footprint R2W_AX08 (RESISTOR 2 WATT, AXIAL0.8)
footprint R2W_AX_VER (RESISTOR 2 WATT, AXIAL0.8)
footprint R3W_AX09 (RESISTOR 3 WATT, AXIAL0.9)
footprint R4W_AX10 (RESISTOR 4 WATT, AXIAL1.0)
footprint R05W_AX05 (RESISTOR 0.5 WATT, AXIAL0.5)
footprint R5W_AX11 (RESISTOR 5 WATT, AXIAL1.1)
footprint R5W_VER (RESISTOR 5 WATT, AXIAL1.1)
footprint R025W_AX04 (RESISTOR 1/4 WATT, AXIAL0.4)
footprint R025W_AX_VER (RESISTOR 1/4 WATT, AXIAL0.4)
footprint R0125W_AX03 (RESISTOR 1/8 WATT, AXIAL0.3 INCH SPACING)
footprint R0125W_AX_VER (RESISTOR 1/8 WATT, AXIAL0.25)
footprint RWW2W_VER (RESISTOR 2 WATT, Wirewound)
footprint RWW10W_VER (RESISTOR 10 WATT, Wirewound)
footprint R10W_AX11 (RESISTOR 10 WATT, AXIAL1.1)
footprint R10W_AX14 (RESISTOR 10 WATT, AXIAL1.4)
footprint R10W_AX20 (RESISTOR 10 WATT, AXIAL2.0)
footprint RWW5W (Footprint not found)
footprint RWW5W_VER (Footprint not found)
pins: 1, 2

## RES_THD_8
designator R?, comment 100K
RESISTOR, THD; MANF_P#: RK73H1ETTP4701F; MANF: KOA SPEER; PARAM: 0.063W; DESC: DESCRIPTION; DIST#: MOUSER; PARAM2: 1%; ASSEMBLY: ASSEMBLY; PRICE: 100= 0.5$; VALUE: 100K
footprint R0125W_AX025 (RESISTOR 1/8 WATT, AXIAL0.25)
footprint R1W_AX06 (RESISTOR 1 WATT, AXIAL0.6)
footprint R2W_AX08 (RESISTOR 2 WATT, AXIAL0.8)
footprint R2W_AX_VER (RESISTOR 2 WATT, AXIAL0.8)
footprint R3W_AX09 (RESISTOR 3 WATT, AXIAL0.9)
footprint R4W_AX10 (RESISTOR 4 WATT, AXIAL1.0)
footprint R05W_AX05 (RESISTOR 0.5 WATT, AXIAL0.5)
footprint R5W_AX11 (RESISTOR 5 WATT, AXIAL1.1)
footprint R5W_VER (RESISTOR 5 WATT, AXIAL1.1)
footprint R025W_AX04 (RESISTOR 1/4 WATT, AXIAL0.4)
footprint R025W_AX_VER (RESISTOR 1/4 WATT, AXIAL0.4)
footprint R0125W_AX03 (RESISTOR 1/8 WATT, AXIAL0.3 INCH SPACING)
footprint R0125W_AX_VER (RESISTOR 1/8 WATT, AXIAL0.25)
footprint RWW2W_VER (RESISTOR 2 WATT, Wirewound)
footprint RWW10W_VER (RESISTOR 10 WATT, Wirewound)
footprint R10W_AX11 (RESISTOR 10 WATT, AXIAL1.1)
footprint R10W_AX14 (RESISTOR 10 WATT, AXIAL1.4)
footprint R10W_AX20 (RESISTOR 10 WATT, AXIAL2.0)
footprint RWW5W (Footprint not found)
footprint RWW5W_VER (Footprint not found)
pins: 1, 2

## RES_THD_9
designator R?, comment 120
RESISTOR, THD; MANF_P#: RK73H1ETTP4701F; MANF: KOA SPEER; PARAM: 0.063W; DESC: DESCRIPTION; DIST#: MOUSER; PARAM2: 1%; ASSEMBLY: ASSEMBLY; PRICE: 100= 0.5$; VALUE: 120
footprint R0125W_AX025 (RESISTOR 1/8 WATT, AXIAL0.25)
footprint R1W_AX06 (RESISTOR 1 WATT, AXIAL0.6)
footprint R2W_AX08 (RESISTOR 2 WATT, AXIAL0.8)
footprint R2W_AX_VER (RESISTOR 2 WATT, AXIAL0.8)
footprint R3W_AX09 (RESISTOR 3 WATT, AXIAL0.9)
footprint R4W_AX10 (RESISTOR 4 WATT, AXIAL1.0)
footprint R05W_AX05 (RESISTOR 0.5 WATT, AXIAL0.5)
footprint R5W_AX11 (RESISTOR 5 WATT, AXIAL1.1)
footprint R5W_VER (RESISTOR 5 WATT, AXIAL1.1)
footprint R025W_AX04 (RESISTOR 1/4 WATT, AXIAL0.4)
footprint R025W_AX_VER (RESISTOR 1/4 WATT, AXIAL0.4)
footprint R0125W_AX03 (RESISTOR 1/8 WATT, AXIAL0.3 INCH SPACING)
footprint R0125W_AX_VER (RESISTOR 1/8 WATT, AXIAL0.25)
footprint RWW2W_VER (RESISTOR 2 WATT, Wirewound)
footprint RWW10W_VER (RESISTOR 10 WATT, Wirewound)
footprint R10W_AX11 (RESISTOR 10 WATT, AXIAL1.1)
footprint R10W_AX14 (RESISTOR 10 WATT, AXIAL1.4)
footprint R10W_AX20 (RESISTOR 10 WATT, AXIAL2.0)
footprint RWW5W (Footprint not found)
footprint RWW5W_VER (Footprint not found)
pins: 1, 2

## RES_THD_ARRAY
designator R?, comment RES_ARRAY_330R
RESISTOR, THD, Array, 8RES; VALUE: RES_ARRAY_330R
footprint RES_ARRAYX8
pins: 1, 2, 3, 4, 5, 6, 7, 8, 9

## RES_THD_POT_7X5
designator R?, comment POT10K
RESISTOR, THD, Potentiometer; VALUE: POT10K
footprint POT_7X5 (POT, TRIM, 7.5X5.0mm, pitch: 5.0mm)
pins: 1 TOP, 2 TAP, 3 BOT

## RES_THD_POT_3296W
designator R?, comment POT10K
RESISTOR, THD, Potentiometer; VALUE: POT10K
footprint POT_3296W (POT, TRIM, 10.0X5.0mm, pitch: 2.5mm 3299W 3296W S64W)
pins: 1 TOP, 2 TAP, 3 BOT

## STEP_MOTOR_CONNECTOR
designator J?, comment STEPMOTOR
VALUE: STEPMOTOR; PARAM1: *; PARAM: *; Parameter 1: *
pins: 1, 2, 3, 4, 5, 6, 7

## SWPBT_SPDT_6X6X5
designator SW?, comment PUSHBUTTON  (value not drawn)
SWITCH, PUSH BUTTON, TACTILE, THD, SPDT, 4X4MM; DESC: DESCRIPTION; MANF: -; VALUE: PUSHBUTTON; ASSEMBLY: ASSEMBLY; PARAM: PARAM; PRICE: PRICE; MANF_P#: -
footprint SWPBT_SPDT_6X6X5 (TACTILE SWITCH 6X6mm 4PIN PBTHD500_4_S600)
pins: 1 P1, 2 P3, 3 P4, 4 P2

## TMP_LM35_TO92
designator U?, comment LM35
SENSOR, TEMP, ANALOG, -55~150oC, 4~20Vcc, Out 0mV + 10mV/oC; MANF_P#: LM35CZ, LM35CAZ or LM35DZ; MANF: TI; PARAM: 0.5°C Accuracy, 10mV/oC, -55~150oC; PARAM2: 4~20Vcc; PRICE: 7$; VALUE: LM35
footprint TO92_3 (TO-92)
pins: 1 G, 2 O, 3 V

## ULN2003_DIP16
designator Q?, comment ULN2003
Darlington, 7-CH, 50V, 0.5A; MANF_P#: ULN2003A; MANF: DIODES; PARAM: 7-CH, 50V, 0.5A; PARAM2: -; VALUE: ULN2003
footprint DIP_16 (DIP, pitch 2.54mm, 300mil Width)
pins: 1 I1, 2 I2, 3 I3, 4 I4, 5 I5, 6 I6, 7 I7, 8 GND, 9 COM, 10 O7, 11 O6, 12 O5, 13 O4, 14 O3, 15 O2, 16 O1